# Altium footprint library con-mini-fit.PcbLib: 51 footprints (part 1 of 4)
Each footprint in its own frame and in the unit in brackets; x right, y up, seen from the top. Pads: shape width x height; smd on the part's side, far side on the other; paste and mask are expansions set on the pad; w line width, h text height; cw(c..) or ccw(c..) is an arc to the next point about the centre after c.
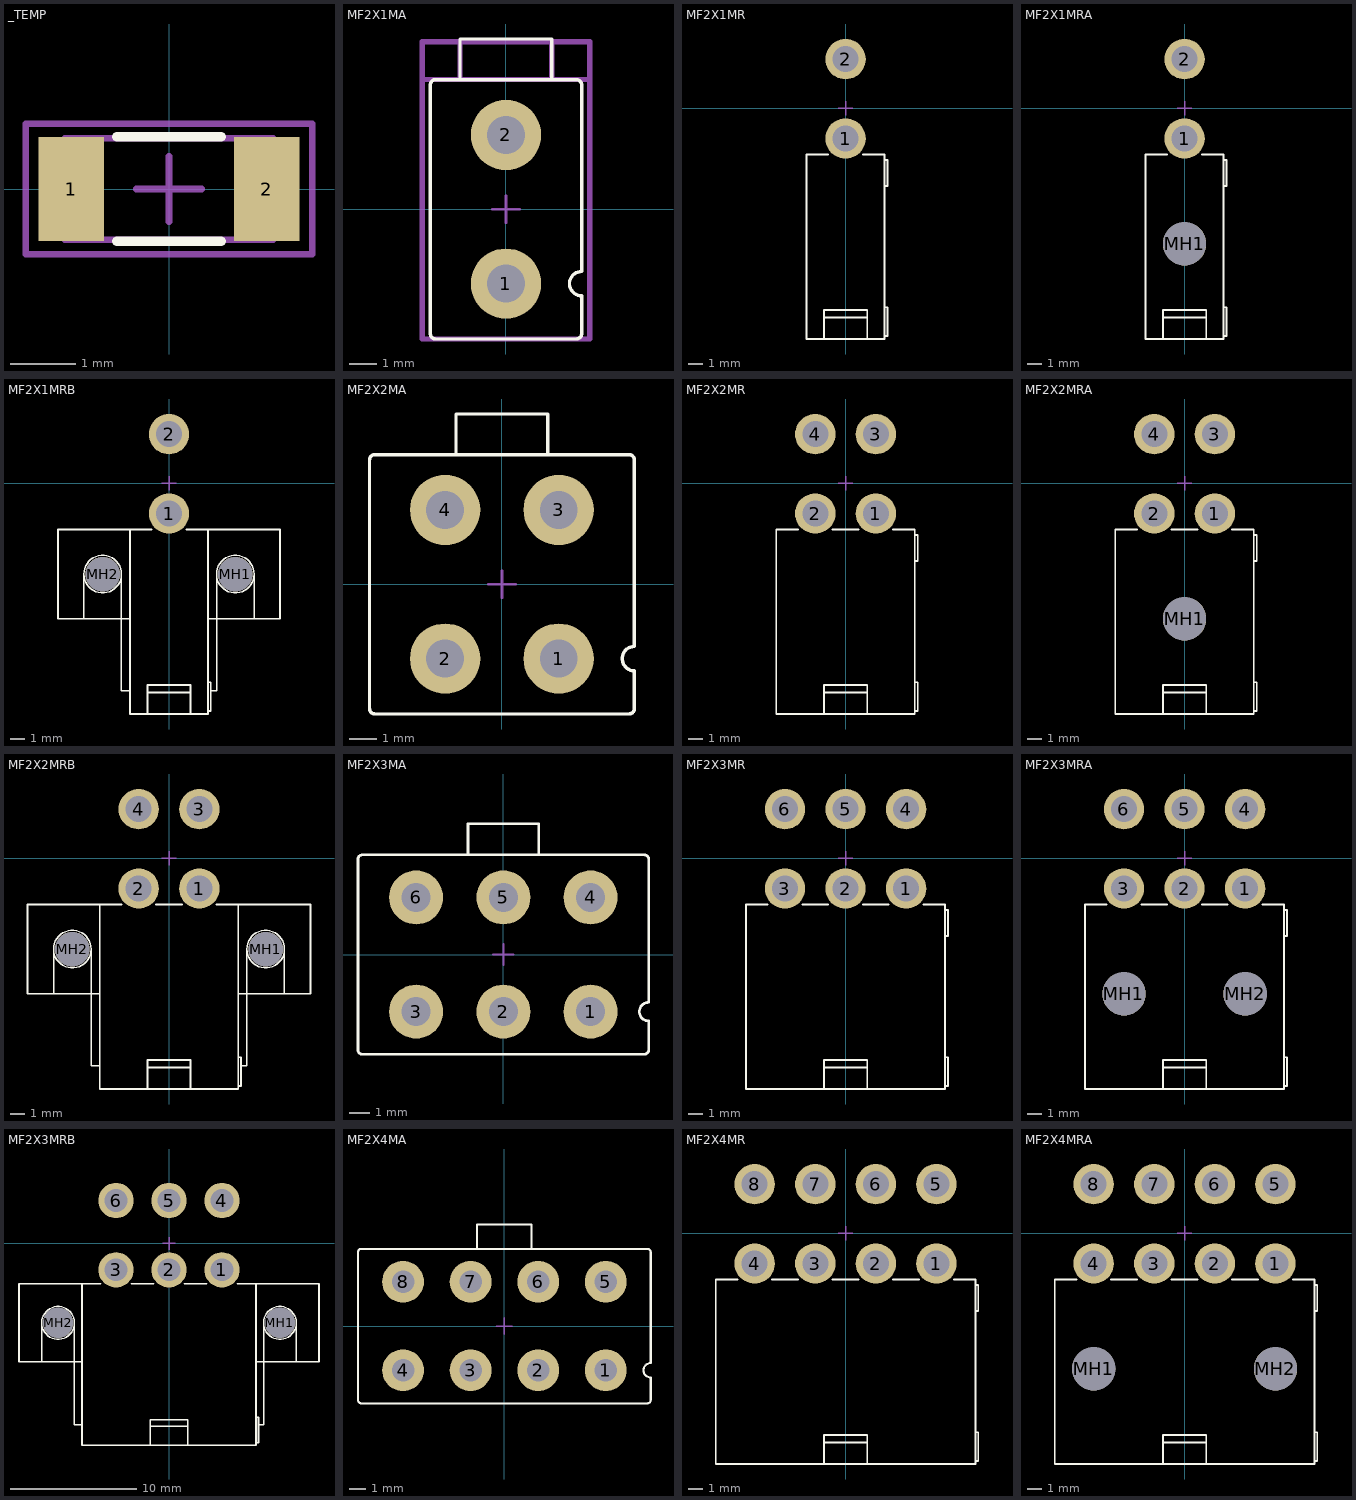
[diagram p0: the footprints below, top view; thin cyan lines are the x and y axes]

## _TEMP [mm]
height 0.6
pads (2):
  rect 1x1.6 smd: 1(-1.5,0) 2(1.5,0)
Top Overlay:
  lines w0.15: -0.8,-0.8 0.8,-0.8 ; -0.8,0.8 0.8,0.8
Top Assembly (Mech3):
  lines w0.1: -1.6,-0.775 -1.6,0.775 1.6,0.775 1.6,-0.775 -1.6,-0.775
Top Courtyard:
  lines w0.1: -0.5,0 0.5,0 ; 0,-0.5 0,0.5 ; -2.2,-1 2.2,-1 2.2,1 -2.2,1 -2.2,-1
3D body "chip_1206_r.STEP": height 0.47, standoff -0.03, extent -1.65,-0.8 1.55,0.8

## MF2X1MA [mm]
pads (2):
  round 2.6 / inner round 1.524 / far side round 2.6 hole 1.4: 1(0,-2.75) 2(0,2.75)
Top Overlay:
  lines w0.127: -1.7,4.8 -1.7,6.3 1.7,6.3 1.7,4.8 ; -1.7,4.8 -2.6,4.8 ccw(c-2.6,4.6) -2.8,4.6 -2.8,-4.6 ccw(c-2.6,-4.6) -2.6,-4.8 2.6,-4.8 ccw(c2.6,-4.6) 2.8,-4.6 2.8,-3.2 cw(c2.8,-2.75) 2.8,-2.3 2.8,4.6 ccw(c2.6,4.6) 2.6,4.8 1.7,4.8 ; -1.7,4.8 1.7,4.8
Top Assembly (Mech3):
  lines w0.2: -1.7,4.8 -3.1,4.8 -3.1,-4.8 3.1,-4.8 3.1,4.8 1.7,4.8 ; -1.7,4.8 1.7,4.8 ; -1.7,4.8 -1.7,6.2 1.7,6.2 1.7,4.8
Top Courtyard:
  lines w0.1: -0.5,0 0.5,0 ; 0,-0.5 0,0.5
  lines w0.2: -3.1,-4.8 3.1,-4.8 3.1,6.2 -3.1,6.2 -3.1,-4.8
3D body "39-28-1023.stp": height 12.8, standoff -3.5, extent -3.1,-4.8 3.1,6.2

## MF2X1MR [mm]
pads (2):
  round 2.8 / inner round 1.524 / far side round 2.8 hole 1.8: 1(0,-2.1) 2(0,3.4)
Top Overlay:
  lines w0.127: -1.2,-3.2 -2.7,-3.2 -2.7,-16 -1.5,-16 ; 1.2,-3.2 2.7,-3.2 2.7,-3.6 ; -1.5,-16 -1.5,-14.5 ; -1.5,-16 1.5,-16 ; -1.5,-14.5 -1.5,-14 1.5,-14 1.5,-14.5 ; -1.5,-14.5 1.5,-14.5 ; 1.5,-16 1.5,-14.5 ; 1.5,-16 2.7,-16 2.7,-15.8 ; 2.7,-15.8 2.9,-15.8 2.9,-13.8 2.7,-13.8 ; 2.7,-15.8 2.7,-13.8 ; 2.7,-13.8 2.7,-5.4 ; 2.7,-5.4 2.9,-5.4 2.9,-3.6 2.7,-3.6 ; 2.7,-5.4 2.7,-3.6
Top Courtyard:
  lines w0.1: -0.5,0 0.5,0 ; 0,-0.5 0,0.5
3D body "39-30-1020.stp": height 11.4, standoff -3.6, extent -2.7,-16 3.1,3.935

## MF2X1MRA [mm]
pads (3):
  round 2.8 / inner round 1.524 / far side round 2.8 hole 1.8: 1(0,-2.1) 2(0,3.4)
  round 3 hole 3 unplated: MH1(0,-9.4)
Top Overlay:
  lines w0.127: -1.2,-3.2 -2.7,-3.2 -2.7,-16 -1.5,-16 ; 1.2,-3.2 2.7,-3.2 2.7,-3.6 ; -1.5,-16 1.5,-16 ; -1.5,-16 -1.5,-14.5 ; -1.5,-14.5 1.5,-14.5 ; -1.5,-14.5 -1.5,-14 1.5,-14 1.5,-14.5 ; 1.5,-16 2.7,-16 2.7,-15.8 ; 1.5,-16 1.5,-14.5 ; 2.7,-15.8 2.7,-13.8 ; 2.7,-15.8 2.9,-15.8 2.9,-13.8 2.7,-13.8 ; 2.7,-13.8 2.7,-5.4 ; 2.7,-5.4 2.7,-3.6 ; 2.7,-5.4 2.9,-5.4 2.9,-3.6 2.7,-3.6
Top Courtyard:
  lines w0.1: -0.5,0 0.5,0 ; 0,-0.5 0,0.5
3D body "39-30-1020.stp": height 11.4, standoff -3.6, extent -2.7,-16 3.1,3.935

## MF2X1MRB [mm]
pads (4):
  round 2.8 / inner round 1.524 / far side round 2.8 hole 1.8: 1(0,-2.1) 2(0,3.4)
  round 2.4 hole 2.4 unplated: MH1(4.6,-6.3) MH2(-4.6,-6.3)
Top Overlay:
  circle w0.1: c-4.6,-6.3 r1.3
  circle w0.1: c4.6,-6.3 r1.3
  lines w0.1: -5.9,-9.4 -5.9,-6.3 ; -3.3,-6.3 -3.3,-9.4 -3.3,-14.4 -2.7,-14.4 ; 2.9,-14.4 3.3,-14.4 3.3,-9.4 3.3,-6.3 ; 5.9,-9.4 5.9,-6.3
  lines w0.127: -2.7,-9.4 -3.3,-9.4 -5.9,-9.4 -7.7,-9.4 -7.7,-3.2 -2.7,-3.2 ; -1.2,-3.2 -2.7,-3.2 ; 1.2,-3.2 2.7,-3.2 ; 2.7,-9.4 3.3,-9.4 5.9,-9.4 7.7,-9.4 7.7,-3.2 2.7,-3.2 ; -2.7,-3.2 -2.7,-16 -1.5,-16 ; -1.5,-16 -1.5,-14.5 ; -1.5,-16 1.5,-16 ; -1.5,-14.5 -1.5,-14 1.5,-14 1.5,-14.5 ; -1.5,-14.5 1.5,-14.5 ; 1.5,-16 1.5,-14.5 ; 1.5,-16 2.7,-16 2.7,-15.8 ; 2.7,-15.8 2.9,-15.8 2.9,-13.8 2.7,-13.8 ; 2.7,-15.8 2.7,-13.8 ; 2.7,-13.8 2.7,-5.4 2.7,-3.6 2.7,-3.2
Top Courtyard:
  lines w0.1: -0.5,0 0.5,0 ; 0,-0.5 0,0.5

## MF2X2MA [mm]
pads (4):
  round 2.6 / inner round 1.524 / far side round 2.6 hole 1.4: 1(2.1,-2.75) 2(-2.1,-2.75) 3(2.1,2.75) 4(-2.1,2.75)
Top Overlay:
  lines w0.127: -1.7,4.8 1.7,4.8 ; -1.7,4.8 -4.7,4.8 ccw(c-4.7,4.6) -4.9,4.6 -4.9,-4.6 ccw(c-4.7,-4.6) -4.7,-4.8 4.7,-4.8 ccw(c4.7,-4.6) 4.9,-4.6 4.9,-3.2 cw(c4.9,-2.75) 4.9,-2.3 4.9,4.6 ccw(c4.7,4.6) 4.7,4.8 1.7,4.8 ; -1.7,4.8 -1.7,6.3 1.7,6.3 1.7,4.8
Top Courtyard:
  lines w0.1: -0.5,0 0.5,0 ; 0,-0.5 0,0.5
3D body "39-29-3046.stp": height 12.8, standoff -3.5, extent -5.2,-4.8 5.2,6.2

## MF2X2MR [mm]
pads (4):
  round 2.8 / inner round 1.524 / far side round 2.8 hole 1.8: 1(2.1,-2.1) 2(-2.1,-2.1) 3(2.1,3.4) 4(-2.1,3.4)
Top Overlay:
  lines w0.127: -3.3,-3.2 -4.8,-3.2 -4.8,-16 -1.5,-16 ; -0.9,-3.2 0.9,-3.2 ; 3.3,-3.2 4.8,-3.2 4.8,-3.6 ; -1.5,-16 1.5,-16 ; -1.5,-16 -1.5,-14.5 ; -1.5,-14.5 1.5,-14.5 ; -1.5,-14.5 -1.5,-14 1.5,-14 1.5,-14.5 ; 1.5,-16 4.8,-16 4.8,-15.8 ; 1.5,-16 1.5,-14.5 ; 4.8,-15.8 4.8,-13.8 ; 4.8,-15.8 5,-15.8 5,-13.8 4.8,-13.8 ; 4.8,-13.8 4.8,-5.4 ; 4.8,-5.4 4.8,-3.6 ; 4.8,-5.4 5,-5.4 5,-3.6 4.8,-3.6
Top Courtyard:
  lines w0.1: -0.5,0 0.5,0 ; 0,-0.5 0,0.5
3D body "39-30-1040.stp": height 11.4, standoff -3.6, extent -4.8,-16 5.2,3.935

## MF2X2MRA [mm]
pads (5):
  round 2.8 / inner round 1.524 / far side round 2.8 hole 1.8: 1(2.1,-2.1) 2(-2.1,-2.1) 3(2.1,3.4) 4(-2.1,3.4)
  round 3 hole 3 unplated: MH1(0,-9.4)
Top Overlay:
  lines w0.127: -3.3,-3.2 -4.8,-3.2 -4.8,-16 -1.5,-16 ; -0.9,-3.2 0.9,-3.2 ; 3.3,-3.2 4.8,-3.2 4.8,-3.6 ; -1.5,-16 1.5,-16 ; -1.5,-16 -1.5,-14.5 ; -1.5,-14.5 1.5,-14.5 ; -1.5,-14.5 -1.5,-14 1.5,-14 1.5,-14.5 ; 1.5,-16 4.8,-16 4.8,-15.8 ; 1.5,-16 1.5,-14.5 ; 4.8,-15.8 4.8,-13.8 ; 4.8,-15.8 5,-15.8 5,-13.8 4.8,-13.8 ; 4.8,-13.8 4.8,-5.4 ; 4.8,-5.4 4.8,-3.6 ; 4.8,-5.4 5,-5.4 5,-3.6 4.8,-3.6
Top Courtyard:
  lines w0.1: -0.5,0 0.5,0 ; 0,-0.5 0,0.5
3D body "39-30-1040.stp": height 11.4, standoff -3.6, extent -4.8,-16 5.2,3.935

## MF2X2MRB [mm]
pads (6):
  round 2.8 / inner round 1.524 / far side round 2.8 hole 1.8: 1(2.1,-2.1) 2(-2.1,-2.1) 3(2.1,3.4) 4(-2.1,3.4)
  round 2.4 hole 2.4 unplated: MH1(6.7,-6.3) MH2(-6.7,-6.3)
Top Overlay:
  circle w0.1: c-6.7,-6.3 r1.3
  circle w0.1: c6.7,-6.3 r1.3
  lines w0.1: -8,-9.4 -8,-6.3 ; -5.4,-6.3 -5.4,-9.4 -5.4,-14.4 -4.8,-14.4 ; 5,-14.4 5.4,-14.4 5.4,-9.4 5.4,-6.3 ; 8,-9.4 8,-6.3
  lines w0.127: -4.8,-9.4 -5.4,-9.4 -8,-9.4 -9.8,-9.4 -9.8,-3.2 -4.8,-3.2 ; -3.3,-3.2 -4.8,-3.2 ; -0.9,-3.2 0.9,-3.2 ; 3.3,-3.2 4.8,-3.2 ; 4.8,-9.4 5.4,-9.4 8,-9.4 9.8,-9.4 9.8,-3.2 4.8,-3.2 ; -4.8,-3.2 -4.8,-16 -1.5,-16 ; -1.5,-16 -1.5,-14.5 ; -1.5,-16 1.5,-16 ; -1.5,-14.5 -1.5,-14 1.5,-14 1.5,-14.5 ; -1.5,-14.5 1.5,-14.5 ; 1.5,-16 1.5,-14.5 ; 1.5,-16 4.8,-16 4.8,-15.8 ; 4.8,-15.8 5,-15.8 5,-13.8 4.8,-13.8 ; 4.8,-15.8 4.8,-13.8 ; 4.8,-13.8 4.8,-5.4 4.8,-3.6 4.8,-3.2
Top Courtyard:
  lines w0.1: -0.5,0 0.5,0 ; 0,-0.5 0,0.5
3D body "39-30-1040.stp": height 11.4, standoff -3.6, extent -4.8,-16 5.2,3.935

## MF2X3MA [mm]
pads (6):
  round 2.6 / inner round 1.524 / far side round 2.6 hole 1.4: 1(4.2,-2.75) 2(0,-2.75) 3(-4.2,-2.75) 4(4.2,2.75) 5(0,2.75) 6(-4.2,2.75)
Top Overlay:
  lines w0.127: -1.7,4.8 -6.8,4.8 ccw(c-6.8,4.6) -7,4.6 -7,-4.6 ccw(c-6.8,-4.6) -6.8,-4.8 6.8,-4.8 ccw(c6.8,-4.6) 7,-4.6 7,-3.2 cw(c7,-2.75) 7,-2.3 7,4.6 ccw(c6.8,4.6) 6.8,4.8 1.7,4.8 ; -1.7,4.8 1.7,4.8 ; -1.7,4.8 -1.7,6.3 1.7,6.3 1.7,4.8
Top Courtyard:
  lines w0.1: -0.5,0 0.5,0 ; 0,-0.5 0,0.5
3D body "39-28-1063.stp": height 12.8, standoff -3.5, extent -7.3,-4.8 7.3,6.2

## MF2X3MR [mm]
pads (6):
  round 2.8 / inner round 1.524 / far side round 2.8 hole 1.8: 1(4.2,-2.1) 2(0,-2.1) 3(-4.2,-2.1) 4(4.2,3.4) 5(0,3.4) 6(-4.2,3.4)
Top Overlay:
  lines w0.127: -5.4,-3.2 -6.9,-3.2 -6.9,-16 -1.5,-16 ; -3,-3.2 -1.2,-3.2 ; 1.2,-3.2 3,-3.2 ; 5.4,-3.2 6.9,-3.2 6.9,-3.6 ; -1.5,-16 -1.5,-14.5 ; -1.5,-16 1.5,-16 ; -1.5,-14.5 -1.5,-14 1.5,-14 1.5,-14.5 ; -1.5,-14.5 1.5,-14.5 ; 1.5,-16 1.5,-14.5 ; 1.5,-16 6.9,-16 6.9,-15.8 ; 6.9,-15.8 7.1,-15.8 7.1,-13.8 6.9,-13.8 ; 6.9,-15.8 6.9,-13.8 ; 6.9,-13.8 6.9,-5.4 ; 6.9,-5.4 7.1,-5.4 7.1,-3.6 6.9,-3.6 ; 6.9,-5.4 6.9,-3.6
Top Courtyard:
  lines w0.1: -0.5,0 0.5,0 ; 0,-0.5 0,0.5
3D body "39-30-1060.stp": height 11.4, standoff -3.6, extent -6.9,-16 7.3,3.935

## MF2X3MRA [mm]
pads (8):
  round 2.8 / inner round 1.524 / far side round 2.8 hole 1.8: 1(4.2,-2.1) 2(0,-2.1) 3(-4.2,-2.1) 4(4.2,3.4) 5(0,3.4) 6(-4.2,3.4)
  round 3 hole 3 unplated: MH1(-4.2,-9.4) MH2(4.2,-9.4)
Top Overlay:
  lines w0.127: -5.4,-3.2 -6.9,-3.2 -6.9,-16 -1.5,-16 ; -3,-3.2 -1.2,-3.2 ; 1.2,-3.2 3,-3.2 ; 5.4,-3.2 6.9,-3.2 6.9,-3.6 ; -1.5,-16 -1.5,-14.5 ; -1.5,-16 1.5,-16 ; -1.5,-14.5 -1.5,-14 1.5,-14 1.5,-14.5 ; -1.5,-14.5 1.5,-14.5 ; 1.5,-16 1.5,-14.5 ; 1.5,-16 6.9,-16 6.9,-15.8 ; 6.9,-15.8 7.1,-15.8 7.1,-13.8 6.9,-13.8 ; 6.9,-15.8 6.9,-13.8 ; 6.9,-13.8 6.9,-5.4 ; 6.9,-5.4 7.1,-5.4 7.1,-3.6 6.9,-3.6 ; 6.9,-5.4 6.9,-3.6
Top Courtyard:
  lines w0.1: -0.5,0 0.5,0 ; 0,-0.5 0,0.5
3D body "39-30-1060.stp": height 11.4, standoff -3.6, extent -6.9,-16 7.3,3.935

## MF2X3MRB [mm]
pads (8):
  round 2.8 / inner round 1.524 / far side round 2.8 hole 1.8: 1(4.2,-2.1) 2(0,-2.1) 3(-4.2,-2.1) 4(4.2,3.4) 5(0,3.4) 6(-4.2,3.4)
  round 2.4 hole 2.4 unplated: MH1(8.8,-6.3) MH2(-8.8,-6.3)
Top Overlay:
  circle w0.1: c-8.8,-6.3 r1.3
  circle w0.1: c8.8,-6.3 r1.3
  lines w0.1: -10.1,-9.4 -10.1,-6.3 ; -7.5,-6.3 -7.5,-9.4 -7.5,-14.4 -6.9,-14.4 ; 7.1,-14.4 7.5,-14.4 7.5,-9.4 7.5,-6.3 ; 10.1,-9.4 10.1,-6.3
  lines w0.127: -6.9,-9.4 -7.5,-9.4 -10.1,-9.4 -11.9,-9.4 -11.9,-3.2 -6.9,-3.2 ; -5.4,-3.2 -6.9,-3.2 ; -3,-3.2 -1.2,-3.2 ; 1.2,-3.2 3,-3.2 ; 5.4,-3.2 6.9,-3.2 ; 6.9,-9.4 7.5,-9.4 10.1,-9.4 11.9,-9.4 11.9,-3.2 6.9,-3.2 ; -6.9,-3.2 -6.9,-16 -1.5,-16 ; -1.5,-16 -1.5,-14.5 ; -1.5,-16 1.5,-16 ; -1.5,-14.5 -1.5,-14 1.5,-14 1.5,-14.5 ; -1.5,-14.5 1.5,-14.5 ; 1.5,-16 1.5,-14.5 ; 1.5,-16 6.9,-16 6.9,-15.8 ; 6.9,-15.8 7.1,-15.8 7.1,-13.8 6.9,-13.8 ; 6.9,-15.8 6.9,-13.8 ; 6.9,-13.8 6.9,-5.4 6.9,-3.6 6.9,-3.2
Top Courtyard:
  lines w0.1: -0.5,0 0.5,0 ; 0,-0.5 0,0.5
3D body "39-30-1060.stp": height 11.4, standoff -3.6, extent -6.9,-16 7.3,3.935

## MF2X4MA [mm]
pads (8):
  round 2.6 / inner round 1.524 / far side round 2.6 hole 1.4: 1(6.3,-2.75) 2(2.1,-2.75) 3(-2.1,-2.75) 4(-6.3,-2.75) 5(6.3,2.75) 6(2.1,2.75) 7(-2.1,2.75) 8(-6.3,2.75)
Top Overlay:
  lines w0.127: -1.7,4.8 -8.9,4.8 ccw(c-8.9,4.6) -9.1,4.6 -9.1,-4.6 ccw(c-8.9,-4.6) -8.9,-4.8 8.9,-4.8 ccw(c8.9,-4.6) 9.1,-4.6 9.1,-3.2 cw(c9.1,-2.75) 9.1,-2.3 9.1,4.6 ccw(c8.9,4.6) 8.9,4.8 1.7,4.8 ; -1.7,4.8 1.7,4.8 ; -1.7,4.8 -1.7,6.3 1.7,6.3 1.7,4.8
Top Courtyard:
  lines w0.1: -0.5,0 0.5,0 ; 0,-0.5 0,0.5
3D body "39-29-3086.stp": height 12.8, standoff -3.5, extent -9.4,-4.8 9.4,6.2

## MF2X4MR [mm]
pads (8):
  round 2.8 / inner round 1.524 / far side round 2.8 hole 1.8: 1(6.3,-2.1) 2(2.1,-2.1) 3(-2.1,-2.1) 4(-6.3,-2.1) 5(6.3,3.4) 6(2.1,3.4) 7(-2.1,3.4) 8(-6.3,3.4)
Top Overlay:
  lines w0.127: -7.5,-3.2 -9,-3.2 -9,-16 -1.5,-16 ; -5.1,-3.2 -3.3,-3.2 ; -0.9,-3.2 0.9,-3.2 ; 3.3,-3.2 5.1,-3.2 ; 7.5,-3.2 9,-3.2 9,-3.6 ; -1.5,-16 1.5,-16 ; -1.5,-16 -1.5,-14.5 ; -1.5,-14.5 1.5,-14.5 ; -1.5,-14.5 -1.5,-14 1.5,-14 1.5,-14.5 ; 1.5,-16 9,-16 9,-15.8 ; 1.5,-16 1.5,-14.5 ; 9,-15.8 9,-13.8 ; 9,-15.8 9.2,-15.8 9.2,-13.8 9,-13.8 ; 9,-13.8 9,-5.4 ; 9,-5.4 9,-3.6 ; 9,-5.4 9.2,-5.4 9.2,-3.6 9,-3.6
Top Courtyard:
  lines w0.1: -0.5,0 0.5,0 ; 0,-0.5 0,0.5
3D body "39-30-1080.stp": height 11.4, standoff -3.6, extent -9,-16 9.4,3.935

## MF2X4MRA [mm]
pads (10):
  round 2.8 / inner round 1.524 / far side round 2.8 hole 1.8: 1(6.3,-2.1) 2(2.1,-2.1) 3(-2.1,-2.1) 4(-6.3,-2.1) 5(6.3,3.4) 6(2.1,3.4) 7(-2.1,3.4) 8(-6.3,3.4)
  round 3 hole 3 unplated: MH1(-6.3,-9.4) MH2(6.3,-9.4)
Top Overlay:
  lines w0.127: -7.5,-3.2 -9,-3.2 -9,-16 -1.5,-16 ; -5.1,-3.2 -3.3,-3.2 ; -0.9,-3.2 0.9,-3.2 ; 3.3,-3.2 5.1,-3.2 ; 7.5,-3.2 9,-3.2 9,-3.6 ; -1.5,-16 1.5,-16 ; -1.5,-16 -1.5,-14.5 ; -1.5,-14.5 1.5,-14.5 ; -1.5,-14.5 -1.5,-14 1.5,-14 1.5,-14.5 ; 1.5,-16 9,-16 9,-15.8 ; 1.5,-16 1.5,-14.5 ; 9,-15.8 9,-13.8 ; 9,-15.8 9.2,-15.8 9.2,-13.8 9,-13.8 ; 9,-13.8 9,-5.4 ; 9,-5.4 9,-3.6 ; 9,-5.4 9.2,-5.4 9.2,-3.6 9,-3.6
Top Courtyard:
  lines w0.1: -0.5,0 0.5,0 ; 0,-0.5 0,0.5
3D body "39-30-1080.stp": height 11.4, standoff -3.6, extent -9,-16 9.4,3.935